# EAGLE library part 74LVC573 (library ACB)
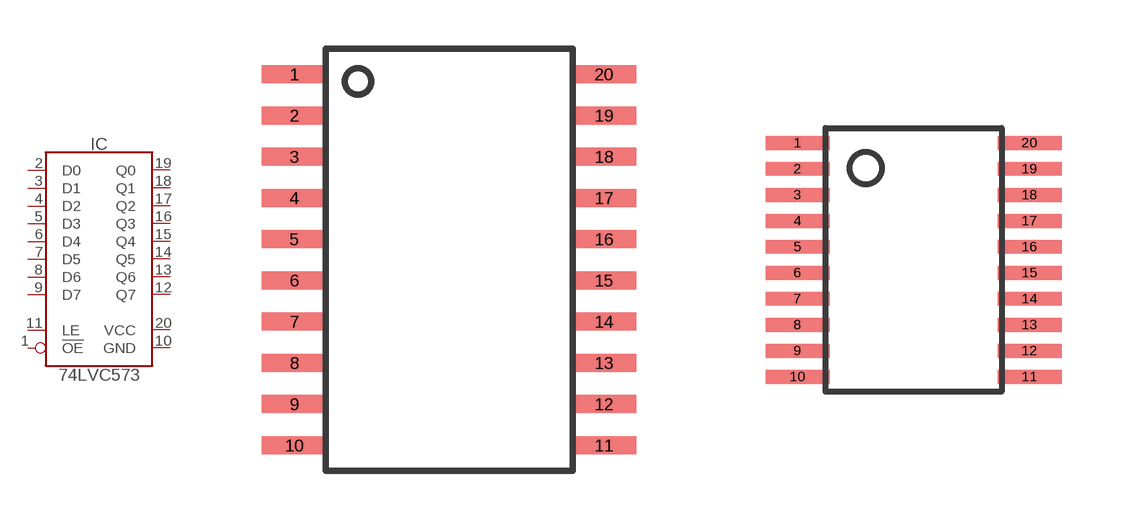
[diagram p6: symbol with the pads of SO20W; footprints SO20W, TSSOP20]

Designator prefix IC

## 74LVC573ADW-SO20W  [SO20W]
1  !OE  in
2  D0  in
3  D1  in
4  D2  in
5  D3  in
6  D4  in
7  D5  in
8  D6  in
9  D7  in
10  GND
11  LE  in
12  Q7  hiz
13  Q6  hiz
14  Q5  hiz
15  Q4  hiz
16  Q3  hiz
17  Q2  hiz
18  Q1  hiz
19  Q0  hiz
20  VCC

## 74LVC573APW-TSSOP20  [TSSOP20]
Pads as for SO20W

## Footprint SO20W (pad centres in mm)
Pady jsou v mil/12.5
smd 2 x 0.552: 1 -4.763,5.715; 2 -4.763,4.445; 3 -4.763,3.175; 4 -4.763,1.905; 5 -4.763,0.635; 6 -4.763,-0.635; 7 -4.763,-1.905; 8 -4.763,-3.175; 9 -4.763,-4.445; 10 -4.763,-5.715; 11 4.763,-5.715; 12 4.763,-4.445; 13 4.763,-3.175; 14 4.763,-1.905; 15 4.763,-0.635; 16 4.763,0.635; 17 4.763,1.905; 18 4.763,3.175; 19 4.763,4.445; 20 4.763,5.715

## Footprint TSSOP20 (pad centres in mm)
smd 1.6 x 0.35: 1 -2.9,2.925; 2 -2.9,2.275; 3 -2.9,1.625; 4 -2.9,0.975; 5 -2.9,0.325; 6 -2.9,-0.325; 7 -2.9,-0.975; 8 -2.9,-1.625; 9 -2.9,-2.275; 10 -2.9,-2.925; 11 2.9,-2.925; 12 2.9,-2.275; 13 2.9,-1.625; 14 2.9,-0.975; 15 2.9,-0.325; 16 2.9,0.325; 17 2.9,0.975; 18 2.9,1.625; 19 2.9,2.275; 20 2.9,2.925